# EAGLE library part MCP3425 (library phMeter)
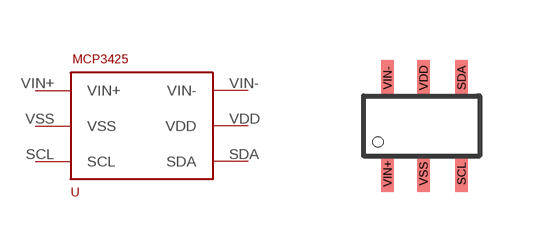
[diagram p0: symbol with the pads of SOT-23-6; footprint SOT-23-6]

Designator prefix -

## MCP3425  [SOT-23-6]
SCL  SCL
SDA  SDA
VDD  VDD
VIN+  VIN+
VIN-  VIN-
VSS  VSS

## Footprint SOT-23-6 (pad centres in mm)
smd 0.305 x 0.9: SCL 2.45,-0.45; SDA 2.45,1.95; VDD 1.5,1.95; VIN+ 0.6,-0.45; VIN- 0.6,1.95; VSS 1.5,-0.45